# Altium schematic symbol library MP1482DS.Schlib: 1 symbol
Pins are listed as number, name and electrical type; pins without a type are passive.

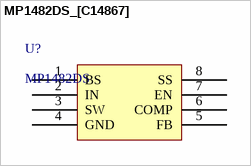
[diagram p0: symbol MP1482DS_[C14867]]

## MP1482DS_[C14867]
designator U?, comment MP1482DS
电源芯片
footprint SOIC-8_150mil
pins: 1 BS, 2 IN, 3 SW, 4 GND, 5 FB, 6 COMP, 7 EN, 8 SS